# Altium schematic symbol library 691137710002.SchLib: 1 symbol
Pins are listed as number, name and electrical type; pins without a type are passive.

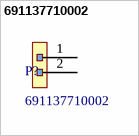
[diagram p0: symbol 691137710002]

## 691137710002
designator P?
TERM BLK 2POS SIDE ENTRY 5MM PCB; MFR: Würth Elektronik; Positions: 2; Rows: 1; Voltage Rating: 300V; Current Rating: 16A; Pin Count: 2; PN: 691137710002; ComponentLink1Description: Datasheet; ComponentLink1URL: https://katalog.we-online.de/em/datasheet/691137710002.pdf; Supplier 1: Digi-Key; Supplier Part Number 1: 732-10955-ND
footprint 691137710002
pins: 1, 2